# EAGLE library part ATMEGA328P (library lightsuits)
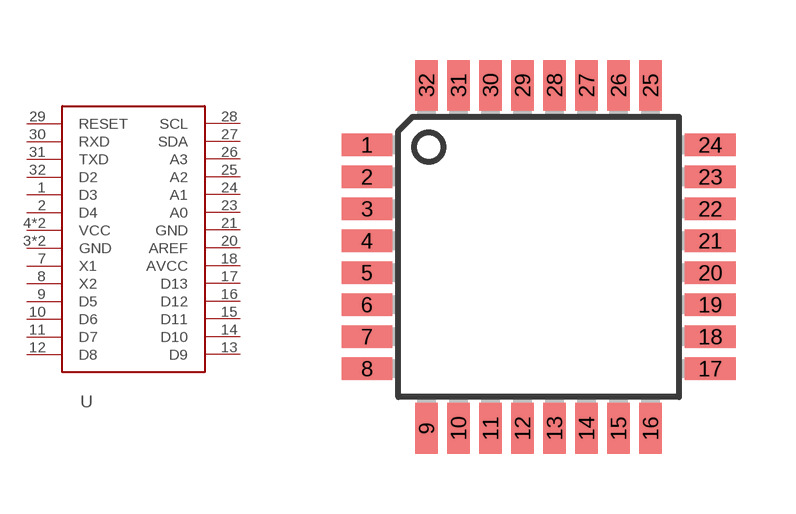
[diagram p0: symbol with the pads of TQFP32-08; footprint TQFP32-08]

Designator prefix -

## ATMEGA328P  [TQFP32-08]
1  D3
2  D4
3  GND
4  VCC
5  GND
6  VCC
7  X1
8  X2
9  D5
10  D6
11  D7
12  D8
13  D9
14  D10
15  D11
16  D12
17  D13
18  AVCC
20  AREF
21  GND
23  A0
24  A1
25  A2
26  A3
27  SDA
28  SCL
29  RESET
30  RXD
31  TXD
32  D2

## Footprint TQFP32-08 (pad centres in mm)
smd 1.27 x 0.559: 1 -4.293,2.8; 2 -4.293,2; 3 -4.293,1.2; 4 -4.293,0.4; 5 -4.293,-0.4; 6 -4.293,-1.2; 7 -4.293,-2; 8 -4.293,-2.8; 17 4.293,-2.8; 18 4.293,-2; 19 4.293,-1.2; 20 4.293,-0.4; 21 4.293,0.4; 22 4.293,1.2; 23 4.293,2; 24 4.293,2.8
smd 0.559 x 1.27: 9 -2.8,-4.293; 10 -2,-4.293; 11 -1.2,-4.293; 12 -0.4,-4.293; 13 0.4,-4.293; 14 1.2,-4.293; 15 2,-4.293; 16 2.8,-4.293; 25 2.8,4.293; 26 2,4.293; 27 1.2,4.293; 28 0.4,4.293; 29 -0.4,4.293; 30 -1.2,4.293; 31 -2,4.293; 32 -2.8,4.293